# Altium schematic symbol library SIMBOLS_MECANICA.SchLib: 10 symbols
Pins are listed as number, name and electrical type; pins without a type are passive.

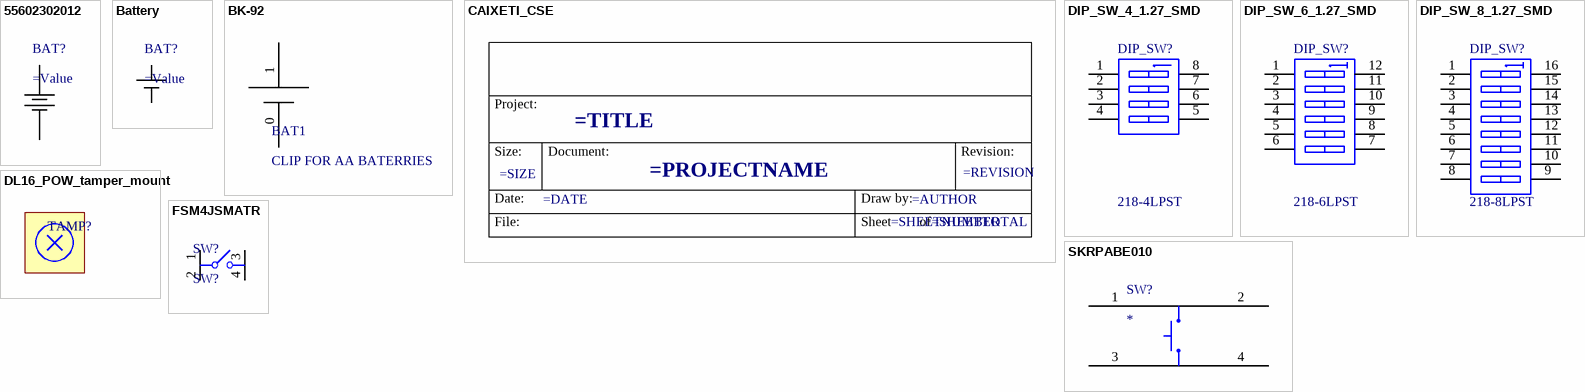
[diagram p0: symbols 55602302012 to SKRPABE010]

## 55602302012
designator BAT?
pins: 1 +, 2 -

## Battery
designator BAT?
pins: 1 + (power), 2 - (power)

## BK-92
designator BAT1, comment CLIP FOR AA BATERRIES
footprint BK-92
pins: 0 - (power), 1 + (power)

## CAIXETI_CSE
designator *  (value not drawn)  (no BOM)
Titol: =TITLE; Revisio: =REVISION; Sheet: =SHEETNUMBER; NumberOfSheets: =SHEETTOTAL; Tamany: =SIZE; Nom: =PROJECTNAME; Autor: =AUTHOR; Data: =DATE
text: Project:; Size:; Document:; Revision:; Date:; Draw by:; File:; Sheet        of

## DIP_SW_4_1.27_SMD
designator DIP_SW?, comment 218-4LPST
DIP Switch, 4 Position, SPST; Manufacturer: CTS Electrocomponents; Part Number: 218-4LPST; Value: 218-4LPST
footprint DIP_SW_8WAY_SMD (DIP Switch; 16 Leads)
simulation model dpsw8 (Spice Subcircuit)
pins: 1 A1, 2 A2, 3 A3, 4 A4, 5 A5, 6 A6, 7 A7, 8 A8

## DIP_SW_6_1.27_SMD
designator DIP_SW?, comment 218-6LPST
DIP Switch, 6 Position, SPST; Manufacturer: CTS Electrocomponents; Part Number: 218-6LPST; Value: 218-6LPST
footprint DIP_SW_8WAY_SMD (DIP Switch; 16 Leads)
simulation model dpsw8 (Spice Subcircuit)
pins: 1 A1, 2 A2, 3 A3, 4 A4, 5 A5, 6 A6, 7 B6, 8 B5, 9 B4, 10 B3, 11 B2, 12 B1

## DIP_SW_8_1.27_SMD
designator DIP_SW?, comment 218-8LPST
DIP Switch, 8 Position, SPST; Manufacturer: CTS Electrocomponents; Part Number: 218-8LPST; Value: 218-8LPST
footprint DIP_SW_8WAY_SMD (DIP Switch; 16 Leads)
simulation model dpsw8 (Spice Subcircuit)
pins: 1 A1, 2 A2, 3 A3, 4 A4, 5 A5, 6 A6, 7 A7, 8 A8, 9 B8, 10 B7, 11 B6, 12 B5, 13 B4, 14 B3, 15 B2, 16 B1

## DL16_POW_tamper_mount
designator TAMP?
Mount for the tamper separator
footprint DL16-POW_tamper_mount

## FSM4JSMATR
designator SW?, comment SW?
pins: 1, 2, 3, 4

## SKRPABE010
designator SW?
pins: 1, 2, 3, 4